# EAGLE library part STM32F4R_64PIN (library controller)
64-pin STM32F4 chip.
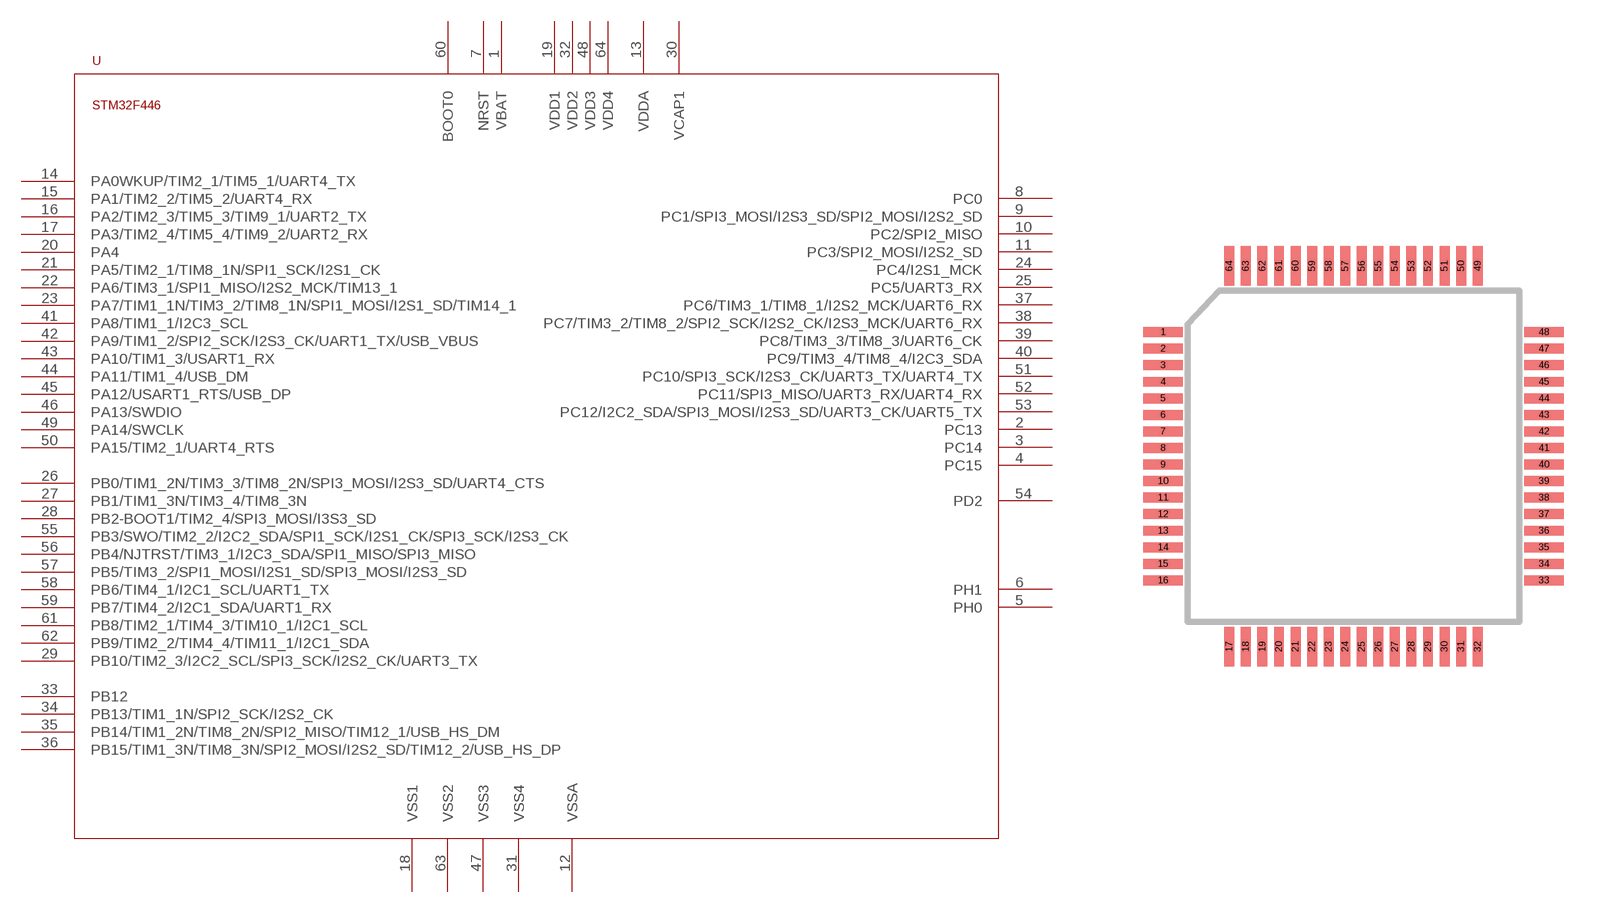
[diagram p0: symbol with the pads of LQFP64; footprint LQFP64]

Designator prefix -

## STM32F4R_64PIN  [LQFP64]
1  VBAT
2  PC13
3  PC14
4  PC15
5  PH0
6  PH1
7  NRST
8  PC0
9  PC1/SPI3_MOSI/I2S3_SD/SPI2_MOSI/I2S2_SD
10  PC2/SPI2_MISO
11  PC3/SPI2_MOSI/I2S2_SD
12  VSSA
13  VDDA
14  PA0WKUP/TIM2_1/TIM5_1/UART4_TX
15  PA1/TIM2_2/TIM5_2/UART4_RX
16  PA2/TIM2_3/TIM5_3/TIM9_1/UART2_TX
17  PA3/TIM2_4/TIM5_4/TIM9_2/UART2_RX
18  VSS1
19  VDD1
20  PA4
21  PA5/TIM2_1/TIM8_1N/SPI1_SCK/I2S1_CK
22  PA6/TIM3_1/SPI1_MISO/I2S2_MCK/TIM13_1
23  PA7/TIM1_1N/TIM3_2/TIM8_1N/SPI1_MOSI/I2S1_SD/TIM14_1
24  PC4/I2S1_MCK
25  PC5/UART3_RX
26  PB0/TIM1_2N/TIM3_3/TIM8_2N/SPI3_MOSI/I2S3_SD/UART4_CTS
27  PB1/TIM1_3N/TIM3_4/TIM8_3N
28  PB2-BOOT1/TIM2_4/SPI3_MOSI/I3S3_SD
29  PB10/TIM2_3/I2C2_SCL/SPI3_SCK/I2S2_CK/UART3_TX
30  VCAP1
31  VSS4
32  VDD2
33  PB12
34  PB13/TIM1_1N/SPI2_SCK/I2S2_CK
35  PB14/TIM1_2N/TIM8_2N/SPI2_MISO/TIM12_1/USB_HS_DM
36  PB15/TIM1_3N/TIM8_3N/SPI2_MOSI/I2S2_SD/TIM12_2/USB_HS_DP
37  PC6/TIM3_1/TIM8_1/I2S2_MCK/UART6_RX
38  PC7/TIM3_2/TIM8_2/SPI2_SCK/I2S2_CK/I2S3_MCK/UART6_RX
39  PC8/TIM3_3/TIM8_3/UART6_CK
40  PC9/TIM3_4/TIM8_4/I2C3_SDA
41  PA8/TIM1_1/I2C3_SCL
42  PA9/TIM1_2/SPI2_SCK/I2S3_CK/UART1_TX/USB_VBUS
43  PA10/TIM1_3/USART1_RX
44  PA11/TIM1_4/USB_DM
45  PA12/USART1_RTS/USB_DP
46  PA13/SWDIO
47  VSS3
48  VDD3
49  PA14/SWCLK
50  PA15/TIM2_1/UART4_RTS
51  PC10/SPI3_SCK/I2S3_CK/UART3_TX/UART4_TX
52  PC11/SPI3_MISO/UART3_RX/UART4_RX
53  PC12/I2C2_SDA/SPI3_MOSI/I2S3_SD/UART3_CK/UART5_TX
54  PD2
55  PB3/SWO/TIM2_2/I2C2_SDA/SPI1_SCK/I2S1_CK/SPI3_SCK/I2S3_CK
56  PB4/NJTRST/TIM3_1/I2C3_SDA/SPI1_MISO/SPI3_MISO
57  PB5/TIM3_2/SPI1_MOSI/I2S1_SD/SPI3_MOSI/I2S3_SD
58  PB6/TIM4_1/I2C1_SCL/UART1_TX
59  PB7/TIM4_2/I2C1_SDA/UART1_RX
60  BOOT0
61  PB8/TIM2_1/TIM4_3/TIM10_1/I2C1_SCL
62  PB9/TIM2_2/TIM4_4/TIM11_1/I2C1_SDA
63  VSS2
64  VDD4

## Footprint LQFP64 (pad centres in mm)
smd 1.2 x 0.3: 1 -5.75,3.75; 2 -5.75,3.25; 3 -5.75,2.75; 4 -5.75,2.25; 5 -5.75,1.75; 6 -5.75,1.25; 7 -5.75,0.75; 8 -5.75,0.25; 9 -5.75,-0.25; 10 -5.75,-0.75; 11 -5.75,-1.25; 12 -5.75,-1.75; 13 -5.75,-2.25; 14 -5.75,-2.75; 15 -5.75,-3.25; 16 -5.75,-3.75; 33 5.75,-3.75; 34 5.75,-3.25; 35 5.75,-2.75; 36 5.75,-2.25; 37 5.75,-1.75; 38 5.75,-1.25; 39 5.75,-0.75; 40 5.75,-0.25; 41 5.75,0.25; 42 5.75,0.75; 43 5.75,1.25; 44 5.75,1.75; 45 5.75,2.25; 46 5.75,2.75; 47 5.75,3.25; 48 5.75,3.75
smd 0.3 x 1.2: 17 -3.75,-5.75; 18 -3.25,-5.75; 19 -2.75,-5.75; 20 -2.25,-5.75; 21 -1.75,-5.75; 22 -1.25,-5.75; 23 -0.75,-5.75; 24 -0.25,-5.75; 25 0.25,-5.75; 26 0.75,-5.75; 27 1.25,-5.75; 28 1.75,-5.75; 29 2.25,-5.75; 30 2.75,-5.75; 31 3.25,-5.75; 32 3.75,-5.75; 49 3.75,5.75; 50 3.25,5.75; 51 2.75,5.75; 52 2.25,5.75; 53 1.75,5.75; 54 1.25,5.75; 55 0.75,5.75; 56 0.25,5.75; 57 -0.25,5.75; 58 -0.75,5.75; 59 -1.25,5.75; 60 -1.75,5.75; 61 -2.25,5.75; 62 -2.75,5.75; 63 -3.25,5.75; 64 -3.75,5.75